# Altium schematic symbol library Marks.SchLib: 3 symbols
Pins are listed as number, name and electrical type; pins without a type are passive.

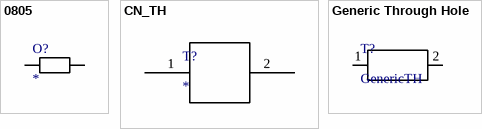
[diagram p0: symbols 0805 to Generic Through Hole]

## 0805
designator O?
footprint RESC2012X06N (Chip Resistor, 2-Leads, Body 2.00x1.25mm, IPC Medium Density)
pins: 1, 2

## CN_TH
designator T?
footprint CAPC1005X06N (Chip Capacitor, 2-Leads, Body 1.00x0.50mm, IPC Medium Density)
pins: 1, 2

## Generic Through Hole
designator T?, comment GenericTH
footprint Generic Two Pin Connector
pins: 1, 2